# EAGLE library part MSP430F261X (library Moo1.2)
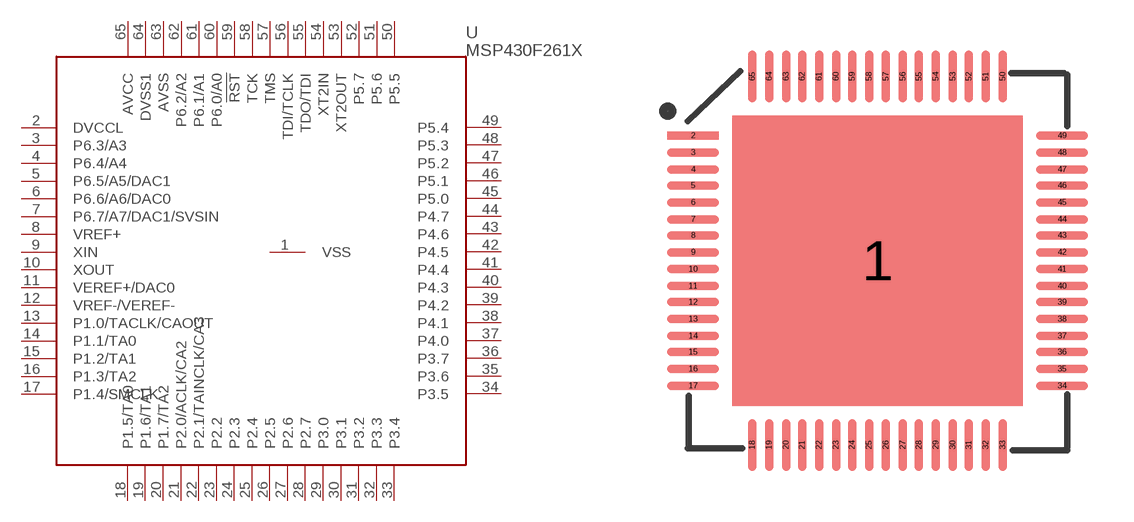
[diagram p7: symbol with the pads of 64-PM_1PRIMARY; footprint 64-PM_1PRIMARY]

Designator prefix -

## MSP430F261X  [64-PM_1PRIMARY]
1  VSS
2  DVCCL
3  P6.3/A3
4  P6.4/A4
5  P6.5/A5/DAC1
6  P6.6/A6/DAC0
7  P6.7/A7/DAC1/SVSIN
8  VREF+
9  XIN
10  XOUT
11  VEREF+/DAC0
12  VREF-/VEREF-
13  P1.0/TACLK/CAOUT
14  P1.1/TA0
15  P1.2/TA1
16  P1.3/TA2
17  P1.4/SMCLK
18  P1.5/TA0
19  P1.6/TA1
20  P1.7/TA2
21  P2.0/ACLK/CA2
22  P2.1/TAINCLK/CA3
23  P2.2
24  P2.3
25  P2.4
26  P2.5
27  P2.6
28  P2.7
29  P3.0
30  P3.1
31  P3.2
32  P3.3
33  P3.4
34  P3.5
35  P3.6
36  P3.7
37  P4.0
38  P4.1
39  P4.2
40  P4.3
41  P4.4
42  P4.5
43  P4.6
44  P4.7
45  P5.0
46  P5.1
47  P5.2
48  P5.3
49  P5.4
50  P5.5
51  P5.6
52  P5.7
53  XT2OUT
54  XT2IN
55  TDO/TDI
56  TDI/TCLK
57  TMS
58  TCK
59  !RST
60  P6.0/A0
61  P6.1/A1
62  P6.2/A2
63  AVSS
64  DVSS1
65  AVCC

## Footprint 64-PM_1PRIMARY (pad centres in mm)
Original name 64-PM
smd 8.712 x 8.712: 1 0,0
smd 1.549 x 0.254: 2 -5.537,3.759; 3 -5.537,3.251; 4 -5.537,2.743; 5 -5.537,2.261; 6 -5.537,1.753; 7 -5.537,1.245; 8 -5.537,0.762; 9 -5.537,0.254; 10 -5.537,-0.254; 11 -5.537,-0.762; 12 -5.537,-1.245; 13 -5.537,-1.753; 14 -5.537,-2.261; 15 -5.537,-2.743; 16 -5.537,-3.251; 17 -5.537,-3.759; 34 5.537,-3.759; 35 5.537,-3.251; 36 5.537,-2.743; 37 5.537,-2.261; 38 5.537,-1.753; 39 5.537,-1.245; 40 5.537,-0.762; 41 5.537,-0.254; 42 5.537,0.254; 43 5.537,0.762; 44 5.537,1.245; 45 5.537,1.753; 46 5.537,2.261; 47 5.537,2.743; 48 5.537,3.251; 49 5.537,3.759
smd 0.254 x 1.549: 18 -3.759,-5.537; 19 -3.251,-5.537; 20 -2.743,-5.537; 21 -2.261,-5.537; 22 -1.753,-5.537; 23 -1.245,-5.537; 24 -0.762,-5.537; 25 -0.254,-5.537; 26 0.254,-5.537; 27 0.762,-5.537; 28 1.245,-5.537; 29 1.753,-5.537; 30 2.261,-5.537; 31 2.743,-5.537; 32 3.251,-5.537; 33 3.759,-5.537; 50 3.759,5.537; 51 3.251,5.537; 52 2.743,5.537; 53 2.261,5.537; 54 1.753,5.537; 55 1.245,5.537; 56 0.762,5.537; 57 0.254,5.537; 58 -0.254,5.537; 59 -0.762,5.537; 60 -1.245,5.537; 61 -1.753,5.537; 62 -2.261,5.537; 63 -2.743,5.537; 64 -3.251,5.537; 65 -3.759,5.537